# Altium schematic symbol library BGX50A.SchLib: 1 symbol
Pins are listed as number, name and electrical type; pins without a type are passive.

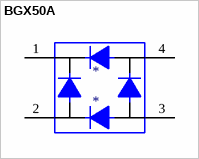
[diagram p0: symbol BGX50A]

## BGX50A
designator *
footprint SOT143
pins: 1, 2, 3, 4